# EAGLE library part NAT9914BP (library ieee488)
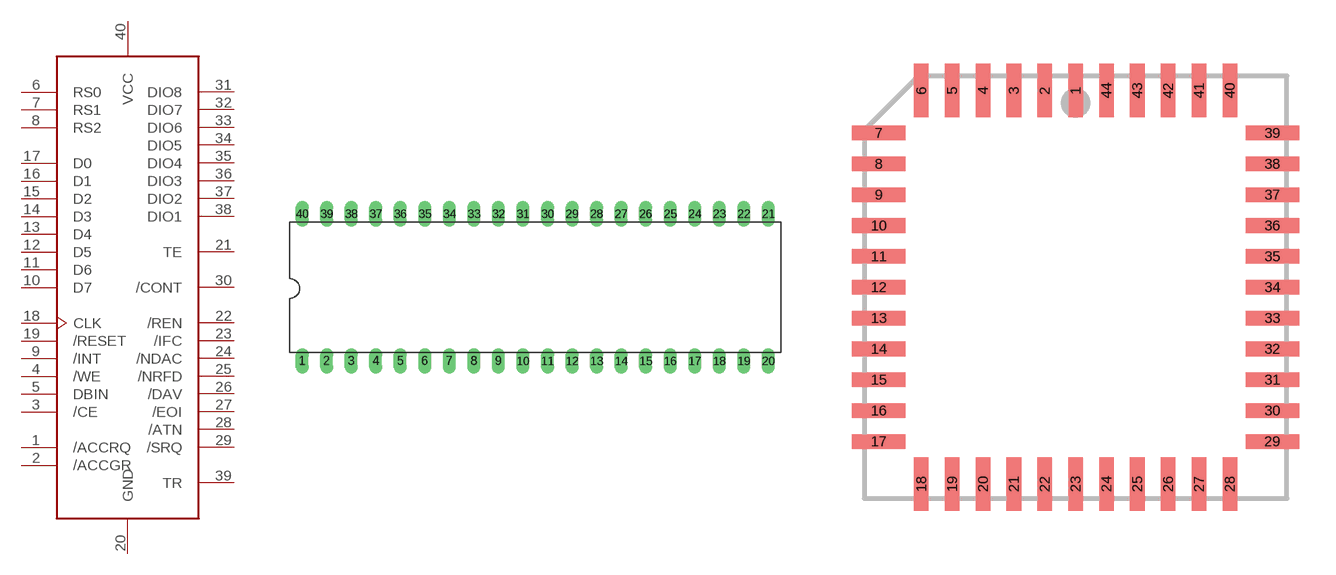
[diagram p1: symbol with the pads of DIL40; footprints DIL40, PLCC44]

Designator prefix -

## NAT9914BPD  [DIL40]
1  /ACCRQ  out
2  /ACCGR  in
3  /CE  in
4  /WE  in
5  DBIN  in
6  RS0  in
7  RS1  in
8  RS2  in
9  /INT  out
10  D7
11  D6
12  D5
13  D4
14  D3
15  D2
16  D1
17  D0
18  CLK  in
19  /RESET  in
20  GND  pwr
21  TE  out
22  /REN
23  /IFC
24  /NDAC
25  /NRFD
26  /DAV
27  /EOI
28  /ATN
29  /SRQ
30  /CONT
31  DIO8
32  DIO7
33  DIO6
34  DIO5
35  DIO4
36  DIO3
37  DIO2
38  DIO1
39  TR
40  VCC  pwr

## NAT9914BPL  [PLCC44]
2  /ACCRQ  out
3  /ACCGR  in
4  /CE  in
5  /WE  in
6  DBIN  in
7  RS0  in
8  RS1  in
9  RS2  in
10  /INT  out
11  D7
12  D6
13  D5
14  D4
15  D3
16  D2
17  D1
19  D0
20  CLK  in
21  /RESET  in
22  GND  pwr
23  TE  out
24  /REN
25  /IFC
26  /NDAC
27  /NRFD
29  /DAV
30  /EOI
31  /ATN
32  /SRQ
33  /CONT
34  DIO8
35  DIO7
36  DIO6
37  DIO5
38  DIO4
39  DIO3
41  DIO2
42  DIO1
43  TR
44  VCC  pwr

## Footprint DIL40 (pad centres in mm)
Dual In Line Package
drill 0.813 long: 1 -24.13,-7.62; 2 -21.59,-7.62; 3 -19.05,-7.62; 4 -16.51,-7.62; 5 -13.97,-7.62; 6 -11.43,-7.62; 7 -8.89,-7.62; 8 -6.35,-7.62; 9 -3.81,-7.62; 10 -1.27,-7.62; 11 1.27,-7.62; 12 3.81,-7.62; 13 6.35,-7.62; 14 8.89,-7.62; 15 11.43,-7.62; 16 13.97,-7.62; 17 16.51,-7.62; 18 19.05,-7.62; 19 21.59,-7.62; 20 24.13,-7.62; 21 24.13,7.62; 22 21.59,7.62; 23 19.05,7.62; 24 16.51,7.62; 25 13.97,7.62; 26 11.43,7.62; 27 8.89,7.62; 28 6.35,7.62; 29 3.81,7.62; 30 1.27,7.62; 31 -1.27,7.62; 32 -3.81,7.62; 33 -6.35,7.62; 34 -8.89,7.62; 35 -11.43,7.62; 36 -13.97,7.62; 37 -16.51,7.62; 38 -19.05,7.62; 39 -21.59,7.62; 40 -24.13,7.62

## Footprint PLCC44 (pad centres in mm)
PLASTIC LEADED CHIP CARRIER square
smd 0.6 x 2.2: 1 0,8.1; 2 -1.27,8.1; 3 -2.54,8.1; 4 -3.81,8.1; 5 -5.08,8.1; 6 -6.35,8.1; 18 -6.35,-8.1; 19 -5.08,-8.1; 20 -3.81,-8.1; 21 -2.54,-8.1; 22 -1.27,-8.1; 23 0,-8.1; 24 1.27,-8.1; 25 2.54,-8.1; 26 3.81,-8.1; 27 5.08,-8.1; 28 6.35,-8.1; 40 6.35,8.1; 41 5.08,8.1; 42 3.81,8.1; 43 2.54,8.1; 44 1.27,8.1
smd 2.2 x 0.6: 7 -8.1,6.35; 8 -8.1,5.08; 9 -8.1,3.81; 10 -8.1,2.54; 11 -8.1,1.27; 12 -8.1,0; 13 -8.1,-1.27; 14 -8.1,-2.54; 15 -8.1,-3.81; 16 -8.1,-5.08; 17 -8.1,-6.35; 29 8.1,-6.35; 30 8.1,-5.08; 31 8.1,-3.81; 32 8.1,-2.54; 33 8.1,-1.27; 34 8.1,0; 35 8.1,1.27; 36 8.1,2.54; 37 8.1,3.81; 38 8.1,5.08; 39 8.1,6.35